# Altium footprint library 484060003.PcbLib: 1 footprints
Each footprint in its own frame and in the unit in brackets; x right, y up, seen from the top. Pads: shape width x height; smd on the part's side, far side on the other; paste and mask are expansions set on the pad; w line width, h text height; cw(c..) or ccw(c..) is an arc to the next point about the centre after c.
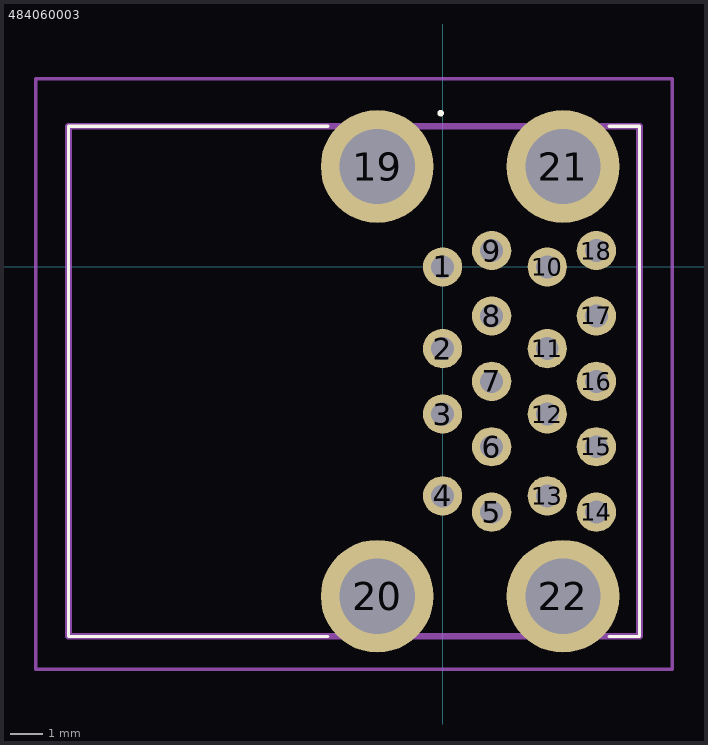
[diagram p0: the footprint, top view; thin cyan lines are the x and y axes]

## 484060003 [mm]
pads (22):
  round 1.2 hole 0.7: 1(0,0) 2(0,-2.5) 3(0,-4.5) 4(0,-7) 5(1.5,-7.5) 6(1.5,-5.5) 7(1.5,-3.5) 8(1.5,-1.5) 9(1.5,0.5) 10(3.2,0) 11(3.2,-2.5) 12(3.2,-4.5) 13(3.2,-7) 14(4.7,-7.5) 15(4.7,-5.5) 16(4.7,-3.5) 17(4.7,-1.5) 18(4.7,0.5)
  round 3.45 hole 2.3: 19(-2,3.07) 20(-2,-10.07) 21(3.68,3.07) 22(3.68,-10.07)
Top Overlay:
  lines w0.1: -3.51,-11.3 -11.44,-11.3 -11.44,4.3 -3.51,4.3 ; 5.09,-11.3 6.02,-11.3 6.02,4.3 5.09,4.3 ; -0.11,4.7 ccw(c-0.06,4.7) -0.01,4.7 ccw(c-0.06,4.7) -0.11,4.7
Mechanical 15:
  lines w0.2: -11.44,-11.3 6.02,-11.3 6.02,4.3 -11.44,4.3 -11.44,-11.3
Mechanical 20:
  lines w0.1: -12.44,-12.3 7.02,-12.3 7.02,5.75 -12.44,5.75 -12.44,-12.3
3D body "48406-0003.stp": height 16.2, standoff -3.2, extent -11.435,-11.585 6.025,4.085